# Altium schematic symbol library AC-DC-conv-4-pin.Schlib: 1 symbol
Pins are listed as number, name and electrical type; pins without a type are passive.

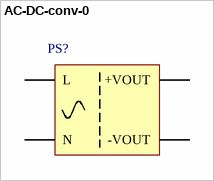
[diagram p0: symbol AC-DC-conv-0]

## AC-DC-conv-0
designator PS?  (value not drawn)
AC/DC Converter
pins: 1 N, 2 L, 3 +VOUT, 4 -VOUT